# Altium footprint library PCB - POWER INDUCTORS - WURTH WE-LQS 4025.PcbLib: 1 footprints
Each footprint in its own frame and in the unit in brackets; x right, y up, seen from the top. Pads: shape width x height; smd on the part's side, far side on the other; paste and mask are expansions set on the pad; w line width, h text height; cw(c..) or ccw(c..) is an arc to the next point about the centre after c.
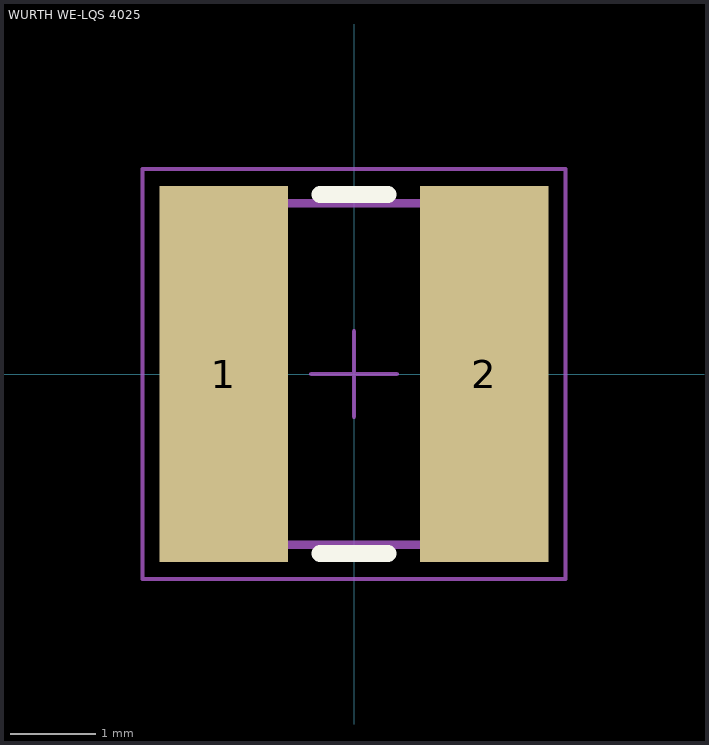
[diagram p0: the footprint, top view; thin cyan lines are the x and y axes]

## WURTH WE-LQS 4025 [mm] "SMD Power Inductor, 2-Leads, body 4x4mm"
height 2.5
pads (2):
  rect 1.5x4.4 smd: 1(-1.525,0) 2(1.525,0)
Top Overlay:
  lines w0.2: -0.4,-2.1 0.4,-2.1 ; -0.4,2.1 0.4,2.1
Top Assembly:
  lines w0.05: -0.5,0 0.5,0 ; 0,-0.5 0,0.5
Top Component Outline:
  lines w0.1: -2,-2 -2,2 ; -2,-2 2,-2 ; -2,-2 2,-2 ; -2,-2 -2,2 ; -2,2 2,2 ; -2,2 2,2 ; 2,-2 2,2 ; 2,-2 2,2
Top Courtyard:
  lines w0.05: -2.475,-2.4 -2.475,2.4 2.475,2.4 2.475,-2.4 -2.475,-2.4
3D body "IndLQS_4025_74404043xxxA.stp": height 2.15, standoff 0, extent -2,-2 2,2